# Altium schematic symbol library AD9914.SchLib: 2 symbols
Pins are listed as number, name and electrical type; pins without a type are passive.

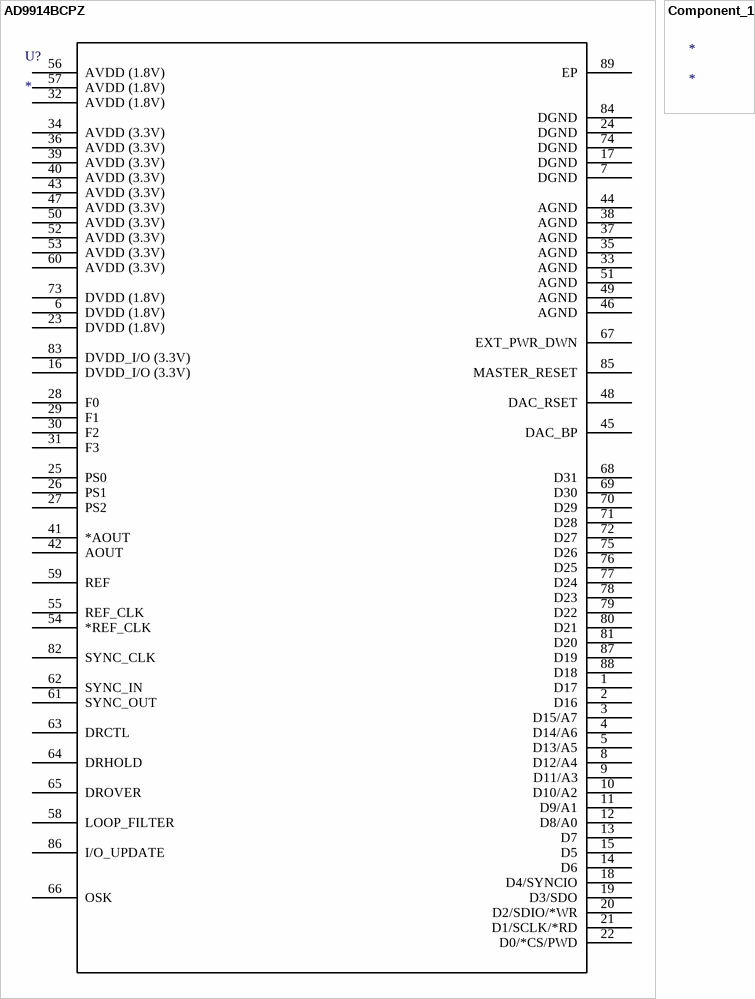
[diagram p0: symbols AD9914BCPZ to Component_1]

## AD9914BCPZ
designator U?
Imported; RefDes: RefDes; Type: DEV; Value: Value
footprint CP_88_5
pins: 1 D17, 2 D16, 3 D15/A7, 4 D14/A6, 5 D13/A5, 6 DVDD (1.8V), 7 DGND, 8 D12/A4, 9 D11/A3, 10 D10/A2, 11 D9/A1, 12 D8/A0, 13 D7, 14 D6, 15 D5, 16 DVDD_I/O (3.3V), 17 DGND, 18 D4/SYNCIO, 19 D3/SDO, 20 D2/SDIO/*WR, 21 D1/SCLK/*RD, 22 D0/*CS/PWD, 23 DVDD (1.8V), 24 DGND, 25 PS0, 26 PS1, 27 PS2, 28 F0, 29 F1, 30 F2, 31 F3, 32 AVDD (1.8V), 33 AGND, 34 AVDD (3.3V), 35 AGND, 36 AVDD (3.3V), 37 AGND, 38 AGND, 39 AVDD (3.3V), 40 AVDD (3.3V), 41 *AOUT, 42 AOUT, 43 AVDD (3.3V), 44 AGND, 45 DAC_BP, 46 AGND, 47 AVDD (3.3V), 48 DAC_RSET, 49 AGND, 50 AVDD (3.3V), 51 AGND, 52 AVDD (3.3V), 53 AVDD (3.3V), 54 *REF_CLK, 55 REF_CLK, 56 AVDD (1.8V), 57 AVDD (1.8V), 58 LOOP_FILTER, 59 REF, 60 AVDD (3.3V), 61 SYNC_OUT, 62 SYNC_IN, 63 DRCTL, 64 DRHOLD, 65 DROVER, 66 OSK, 67 EXT_PWR_DWN, 68 D31, 69 D30, 70 D29, 71 D28, 72 D27, 73 DVDD (1.8V), 74 DGND, 75 D26, 76 D25, 77 D24, 78 D23, 79 D22, 80 D21, 81 D20, 82 SYNC_CLK, 83 DVDD_I/O (3.3V), 84 DGND, 85 MASTER_RESET, 86 I/O_UPDATE, 87 D19, 88 D18, 89 EP

## Component_1
designator *